# Altium footprint library QUTMS_PowerSupplyLibrary.PcbLib: 2 footprints
Each footprint in its own frame and in the unit in brackets; x right, y up, seen from the top. Pads: shape width x height; smd on the part's side, far side on the other; paste and mask are expansions set on the pad; w line width, h text height; cw(c..) or ccw(c..) is an arc to the next point about the centre after c.
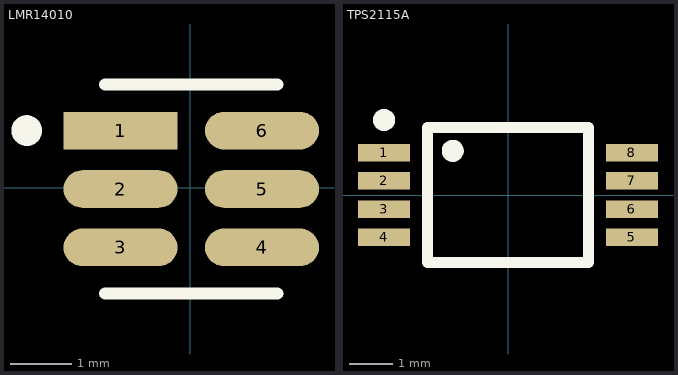
[diagram p0: the footprints below, top view; thin cyan lines are the x and y axes]

## LMR14010 [mm]
pads (6):
  rect 1.854x0.612 smd paste+0: 1(-1.136,0.933)
  rrect100% 1.854x0.612 smd paste+0: 2(-1.136,-0.017) 3(-1.136,-0.967) 4(1.164,-0.967) 5(1.164,-0.017) 6(1.164,0.933)
Top Overlay:
  circle w0.25: c-2.663,0.933 r0.125
  lines w0.2: -1.386,-1.717 1.414,-1.717 ; -1.386,1.683 1.414,1.683
3D body "IC_Texas_Instruments_LMR14010ADDCR_eec.STEP": height 1.1, standoff 0, extent -1.386,-1.467 1.414,1.434

## TPS2115A [mm]
pads (8):
  rect 1.2x0.4 smd: 1(-2.85,0.975) 2(-2.85,0.325) 3(-2.85,-0.325) 4(-2.85,-0.975) 5(2.85,-0.975) 6(2.85,-0.325) 7(2.85,0.325) 8(2.85,0.975)
Top Overlay:
  circle w0.254: c-1.27,1.016 r0.127
  circle w0.254: c-2.85,1.725 r0.127
  lines w0.254: -1.85,-1.55 1.85,-1.55 1.85,1.55 -1.85,1.55 -1.85,-1.55
3D body "TSSOP-8.stp": height 1.2, standoff 0, extent -3.228,-1.5 3.228,1.5